# Altium schematic symbol library Fairchild Small Signal Switching Diodes.SchLib: 1 symbol
Pins are listed as number, name and electrical type; pins without a type are passive.

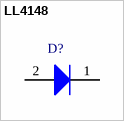
[diagram p0: symbol LL4148]

## LL4148
designator D?
Diode Standard 100V 200mA Surface Mount SOD-80; Manufacturer: Fairchild (On Semiconductor); PartNumber: LL4148; Package: SOD-80; PackageDescription: 2-Pin SOD, Body 3.5 x 1.4 mm; Supplier 1: Digi-Key; Supplier Part Number 1: LL4148FSTR-ND
footprint DIOMELF3414L (MELF Diode, 2-Leads, Body 3.4x1.4mm, IPC High Density)
footprint DIOMELF3414M (MELF Diode, 2-Leads, Body 3.4x1.4mm, IPC Low Density)
footprint DIOMELF3414N (MELF Diode, 2-Leads, Body 3.4x1.4mm, IPC Medium Density)
pins: 1 K, 2 A